# EAGLE library part AMPHENOL_2X5_MINITEK (library MTM_untested)
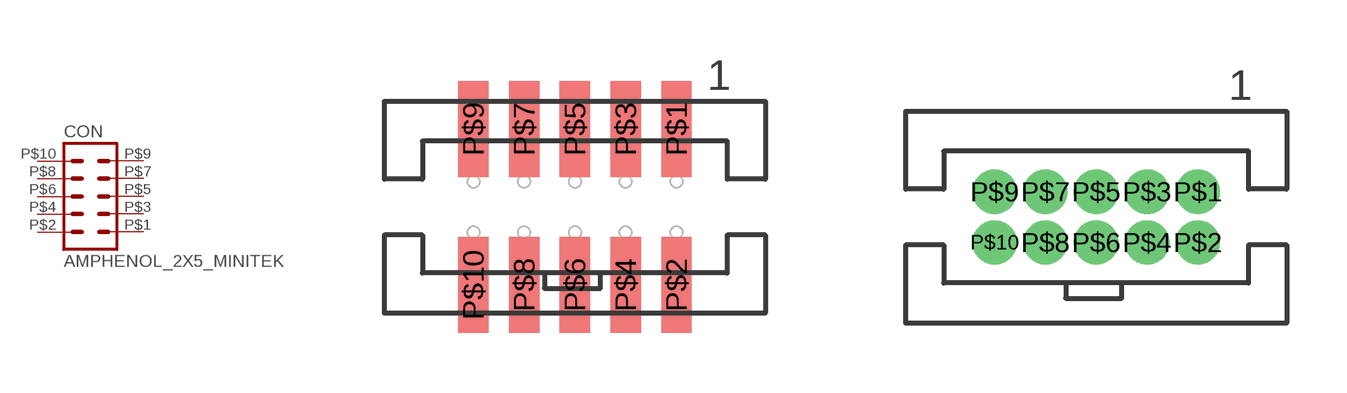
[diagram p3: symbol with the pads of AMPHENOL_2X5_SMD_MINITEK127; footprints AMPHENOL_2X5_SMD_MINITEK127, AMPHENOL_2X5_THRU_MINITEK127]

Designator prefix CON

## AMPHENOL_2X5_MINITEKSMD  [AMPHENOL_2X5_SMD_MINITEK127]
P$1  1  pas
P$2  2  pas
P$3  3  pas
P$4  4  pas
P$5  5  pas
P$6  6  pas
P$7  7  pas
P$8  8  pas
P$9  9  pas
P$10  10  pas

## AMPHENOL_2X5_MINITEKTHRU  [AMPHENOL_2X5_THRU_MINITEK127]
Pads as for AMPHENOL_2X5_SMD_MINITEK127

## Footprint AMPHENOL_2X5_SMD_MINITEK127 (pad centres in mm)
smd 0.76 x 2.4: P$1 2.54,1.95; P$2 2.54,-1.95; P$3 1.27,1.95; P$4 1.27,-1.95; P$5 0,1.95; P$6 0,-1.95; P$7 -1.27,1.95; P$8 -1.27,-1.95; P$9 -2.54,1.95; P$10 -2.54,-1.95

## Footprint AMPHENOL_2X5_THRU_MINITEK127 (pad centres in mm)
drill 0.6 pad 0.813: P$1 2.54,0.635; P$2 2.54,-0.635; P$3 1.27,0.635; P$4 1.27,-0.635; P$5 0,0.635; P$6 0,-0.635; P$7 -1.27,0.635; P$8 -1.27,-0.635; P$9 -2.54,0.635; P$10 -2.54,-0.635